# EAGLE library part ALTERA-JTAG (library kiks-connector)
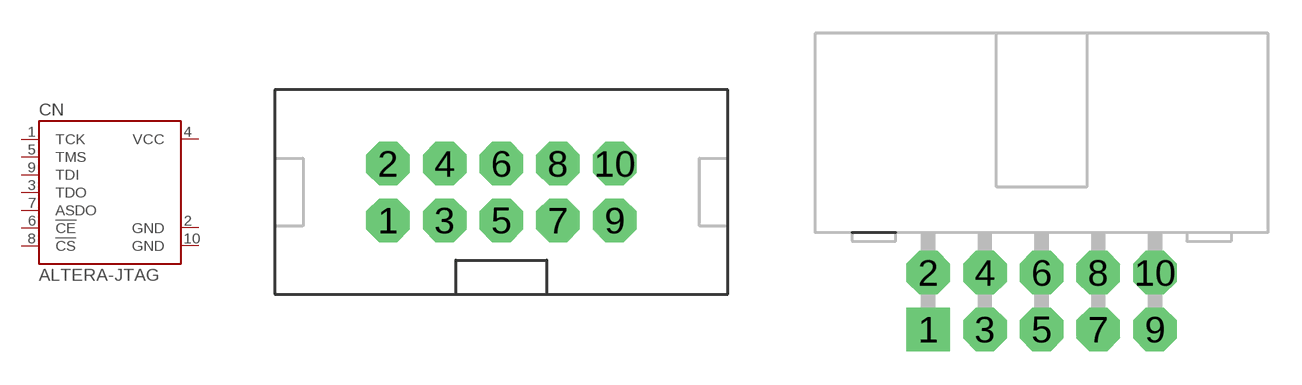
[diagram p5: symbol with the pads of PIN2X5-BOX; footprints PIN2X5-BOX, PIN2X5-RA-BOX]

Designator prefix CN

## ALTERA-JTAG-BOX  [PIN2X5-BOX]
1  TCK  pas
2  GND  pas
3  TDO  pas
4  VCC  pas
5  TMS  pas
6  !CE  pas
7  ASDO  pas
8  !CS  pas
9  TDI  pas
10  GND  pas

## ALTERA-JTAG-RA-BOX  [PIN2X5-RA-BOX]
Pads as for PIN2X5-BOX

## ALTERA-JTAG-SMT1.27  [PIN2X5-SMT1.27]
Pads as for PIN2X5-BOX

## ALTERA-JTAG-TH2.54  [PIN2X5]
Pads as for PIN2X5-BOX

## ALTERA-JTAG-TH1.27  [PIN2X5-1.27]
Pads as for PIN2X5-BOX

## Footprint PIN2X5-BOX (pad centres in mm)
drill 1.3 pad 1.9 octagon: 1 -5.08,-1.27; 2 -5.08,1.27; 3 -2.54,-1.27; 4 -2.54,1.27; 5 0,-1.27; 6 0,1.27; 7 2.54,-1.27; 8 2.54,1.27; 9 5.08,-1.27; 10 5.08,1.27

## Footprint PIN2X5-RA-BOX (pad centres in mm)
drill 1.3 pad 1.9 square: 1 -5.08,-1.27
drill 1.3 pad 1.9 octagon: 2 -5.08,1.27; 3 -2.54,-1.27; 4 -2.54,1.27; 5 0,-1.27; 6 0,1.27; 7 2.54,-1.27; 8 2.54,1.27; 9 5.08,-1.27; 10 5.08,1.27

## Footprint PIN2X5-SMT1.27 (pad centres in mm)
smd 0.7 x 2.4: 1 -2.54,-2.1; 2 -2.54,2.1; 3 -1.27,-2.1; 4 -1.27,2.1; 5 0,-2.1; 6 0,2.1; 7 1.27,-2.1; 8 1.27,2.1; 9 2.54,-2.1; 10 2.54,2.1

## Footprint PIN2X5 (pad centres in mm)
drill 1.3 pad 1.9 octagon: 1 -5.08,-1.27; 2 -5.08,1.27; 3 -2.54,-1.27; 4 -2.54,1.27; 5 0,-1.27; 6 0,1.27; 7 2.54,-1.27; 8 2.54,1.27; 9 5.08,-1.27; 10 5.08,1.27

## Footprint PIN2X5-1.27 (pad centres in mm)
drill 0.7 pad 1.1 octagon: 1 -2.54,-0.635; 2 -2.54,0.635; 3 -1.27,-0.635; 4 -1.27,0.635; 5 0,-0.635; 6 0,0.635; 7 1.27,-0.635; 8 1.27,0.635; 9 2.54,-0.635; 10 2.54,0.635